# Altium schematic symbol library Crystals and Oscillators.SchLib: 9 symbols
Pins are listed as number, name and electrical type; pins without a type are passive.

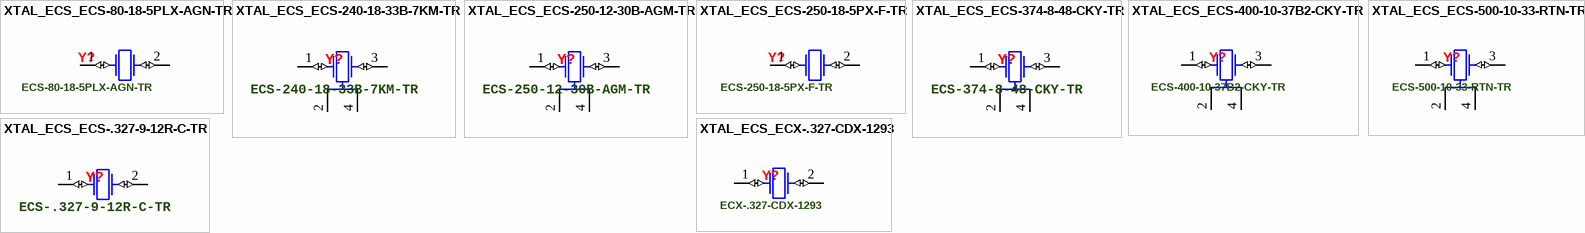
[diagram p0: symbols XTAL_ECS_ECS-80-18-5PLX-AGN-TR to XTAL_ECS_ECX-.327-CDX-1293]

## XTAL_ECS_ECS-80-18-5PLX-AGN-TR
designator Y?, comment ECS-80-18-5PLX-AGN-TR
8 MHz ±25ppm Crystal 18pF 60 Ohms HC-49/US; Manufacturer: ECS International; Frequency: 8MHz; ESR (Equivalent Series Resistance): 60R; Frequency Stability: 30ppm; Manufacturer Part Number: ECS-80-18-5PLX-AGN-TR; ComponentLink1URL: https://ecsxtal.com/store/pdf/csm-7x.pdf; ComponentLink1Description: Datasheet; Load Capacitance: 18pF; Category: Crystals; Case/Package: HC-49/US; Frequency Tolerance: 25ppm; Max Operating Temperature: 85°C; Min Operating Temperature: -40°C; RoHS Compliant: Yes; Supplier 1: Digi-Key; Supplier Part Number 1: XC2782CT-ND; Supplier 2: Mouser; Supplier Part Number 2: 520-80-18-5PLXAGNTR
footprint XTAL1140X480X320N (Crystal, 2 pins; 1140mm L X 480mm W X 320mm H Body)
simulation model Crystal (Model Description)
pins: 1 (io), 2 (io)

## XTAL_ECS_ECS-240-18-33B-7KM-TR
designator Y?, comment ECS-240-18-33B-7KM-TR
24 MHz ±7ppm Crystal 18pF 40 Ohms 4-SMD, No Lead; Manufacturer: ECS International; ESR (Equivalent Series Resistance): 40R; Frequency: 24MHz; Frequency Stability: 10ppm; Manufacturer Part Number: ECS-240-18-33B-7KM-TR; Case/Package: 4-SMD, No Lead; Category: Crystals; ComponentLink1Description: Datasheet; ComponentLink1URL: https://ecsxtal.com/store/pdf/ECS-33B.pdf; Frequency Tolerance: 7ppm; Load Capacitance: 18pF; Max Operating Temperature: 70°C; Min Operating Temperature: -20°C; RoHS Compliant: Yes; Supplier 1: Digi-Key; Supplier Part Number 1: 50-ECS-240-18-33B-7KM-CT-ND; Supplier 2: Mouser; Supplier Part Number 2: 520-240-18-33B-7KM-T
footprint XTAL320X250X80N (Crystal, 4 pins; 3.2mm L X 2.5mm W X 0.8mm H Body)
simulation model Crystal (Model Description)
pins: 1 In/Out (io), 2 GND (power) "Ground", 3 Out/In (io), 4 GND (power) "Ground"

## XTAL_ECS_ECS-250-12-30B-AGM-TR
designator Y?, comment ECS-250-12-30B-AGM-TR
25 MHz ±25ppm Crystal 12pF 30 Ohms 4-SMD, No Lead; Manufacturer: ECS International; ESR (Equivalent Series Resistance): 30R; Frequency: 25MHz; Frequency Stability: 30ppm; Manufacturer Part Number: ECS-250-12-30B-AGM-TR; ComponentLink1Description: Datasheet; ComponentLink1URL: https://ecsxtal.com/store/pdf/ecx_53b.pdf; Case/Package: 4-SMD, No Lead; Category: Crystals; Frequency Tolerance: 25ppm; Load Capacitance: 12pF; Max Operating Temperature: 70°C; Min Operating Temperature: -20°C; RoHS Compliant: Yes; Supplier 1: Digi-Key; Supplier Part Number 1: XC2699CT-ND; Supplier 2: Mouser; Supplier Part Number 2: 520-250-12-30B-AGMT
footprint XTAL500X320X85N (Crystal, 4 pins; 5.0mm L X 3.2mm W X 0.85mm H Body)
simulation model Crystal (Model Description)
pins: 1 In/Out (io), 2 GND (power) "Ground", 3 Out/In (io), 4 GND (power) "Ground"

## XTAL_ECS_ECS-250-18-5PX-F-TR
designator Y?, comment ECS-250-18-5PX-F-TR
25 MHz ±30ppm Crystal 18pF 30 Ohms HC-49/US; Manufacturer: ECS International; Frequency: 25MHz; ESR (Equivalent Series Resistance): 30R; Frequency Stability: 50ppm; Manufacturer Part Number: ECS-250-18-5PX-F-TR; Category: Crystals; Min Operating Temperature: -10°C; Max Operating Temperature: 70°C; Frequency Tolerance: 30ppm; Load Capacitance: 18pF; Case/Package: HC-49/US; ComponentLink1URL: https://ecsxtal.com/store/pdf/csm-7x.pdf; ComponentLink1Description: Datasheet; RoHS Compliant: Yes; Supplier 1: Digi-Key; Supplier Part Number 1: XC1305CT-ND; Supplier 2: Mouser; Supplier Part Number 2: 520-ECS-250-185PXFTR
footprint XTAL1140X480X320N (Crystal, 2 pins; 1140mm L X 480mm W X 320mm H Body)
simulation model Crystal (Model Description)
pins: 1 (io), 2 (io)

## XTAL_ECS_ECS-374-8-48-CKY-TR
designator Y?, comment ECS-374-8-48-CKY-TR
37.4 MHz ±10ppm Crystal 8pF 100 Ohms 4-SMD, No Lead; Manufacturer: ECS International; ESR (Equivalent Series Resistance): 100R; Manufacturer Part Number: ECS-374-8-48-CKY-TR; RoHS Compliant: Yes; ComponentLink1Description: Datasheet; ComponentLink1URL: https://ecsxtal.com/store/pdf/ECX-1048.pdf; Case/Package: 4-SMD, No Lead; Category: Crystals; Frequency: 37.4MHz; Frequency Stability: 10ppm; Frequency Tolerance: 10ppm; Load Capacitance: 8pF; Max Operating Temperature: 85°C; Min Operating Temperature: -30°C; Supplier 1: Digi-Key; Supplier Part Number 1: XC2363CT-ND; Supplier 2: Mouser; Supplier Part Number 2: 520-37.4-8-48-CKYT
footprint XTAL120X100X33N (Crystal, 4 pins; 1.2mm L X 1.0mm W X 0.33mm H Body)
simulation model Crystal (Model Description)
pins: 1 In/Out (io), 2 GND (power) "Ground", 3 Out/In (io), 4 GND (power) "Ground"

## XTAL_ECS_ECS-400-10-37B2-CKY-TR
designator Y?, comment ECS-400-10-37B2-CKY-TR
40 MHz ±10ppm Crystal 10pF 40 Ohms 4-SMD, No Lead; Manufacturer: ECS International; Frequency: 40MHz; ESR (Equivalent Series Resistance): 40R; Manufacturer Part Number: ECS-400-10-37B2-CKY-TR; Category: Crystals; Frequency Stability: 10ppm; Frequency Tolerance: 10ppm; Load Capacitance: 10pF; Min Operating Temperature: -30°C; Max Operating Temperature: 85°C; Case/Package: 4-SMD, No Lead; RoHS Compliant: Yes; Supplier 1: Digi-Key; Supplier Part Number 1: 50-ECS-400-10-37B2-CKY-TRCT-ND; Supplier 2: Mouser; Supplier Part Number 2: 520-400-10-37B2CKYTR; ComponentLink1Description: Datasheet; ComponentLink1URL: https://ecsxtal.com/store/pdf/ECX-1637B2.pdf
footprint XTAL200X160X45N (Crystal, 4 pins; 2.0mm L X 1.6mm W X 0.45mm H Body)
simulation model Crystal (Model Description)
pins: 1 In/Out (io), 2 GND (power) "Ground", 3 Out/In (io), 4 GND (power) "Ground"

## XTAL_ECS_ECS-500-10-33-RTN-TR
designator Y?, comment ECS-500-10-33-RTN-TR
50 MHz ±15ppm Crystal 10pF 40 Ohms 4-SMD, No Lead; Manufacturer: ECS International; Frequency: 50MHz; Frequency Stability: 20ppm; ESR (Equivalent Series Resistance): 40R; Manufacturer Part Number: ECS-500-10-33-RTN-TR; Category: Crystals; Case/Package: 4-SMD, No Lead; Min Operating Temperature: -40°C; Max Operating Temperature: 85°C; Frequency Tolerance: 15ppm; Load Capacitance: 10pF; ComponentLink1URL: https://ecsxtal.com/store/pdf/ecx-32.pdf; ComponentLink1Description: Datasheet; RoHS Compliant: Yes; Supplier 1: Digi-Key; Supplier Part Number 1: XC2551CT-ND; Supplier 2: Mouser; Supplier Part Number 2: 520-500-10-33-RTNT
footprint XTAL320X250X80N (Crystal, 4 pins; 3.2mm L X 2.5mm W X 0.8mm H Body)
simulation model Crystal (Model Description)
pins: 1 In/Out (io), 2 GND (power) "Ground", 3 Out/In (io), 4 GND (power) "Ground"

## XTAL_ECS_ECS-.327-9-12R-C-TR
designator Y?, comment ECS-.327-9-12R-C-TR
32.768 kHz ±10ppm Crystal 9pF 70 kOhms 2-SMD, No Lead; Manufacturer: ECS International; ESR (Equivalent Series Resistance): 70kR; Manufacturer Part Number: ECS-.327-9-12R-C-TR; Case/Package: 2-SMD, No Lead; Min Operating Temperature: -40°C; Max Operating Temperature: 85°C; Frequency: 32.768kHz; Frequency Tolerance: 10ppm; Load Capacitance: 9pF; ComponentLink1URL: https://ecsxtal.com/store/pdf/ECX-12R.pdf; ComponentLink1Description: Datasheet; Category: Crystals; RoHS Compliant: Yes; Supplier 1: Digi-Key; Supplier Part Number 1: XC2744CT-ND; Supplier 2: Mouser; Supplier Part Number 2: 520-.327-9-12R-C-T
footprint XTAL200X120X60N (Crystal, 2 pins; 2.0mm L X 1.2mm W X 0.6mm H Body)
simulation model Crystal (Model Description)
pins: 1 In/Out (io), 2 Out/In (io)

## XTAL_ECS_ECX-.327-CDX-1293
designator Y?, comment ECX-.327-CDX-1293
32.768 kHz ±5ppm Crystal 12.5pF 70 kOhms 2-SMD, No Lead; Manufacturer: ECS International; ESR (Equivalent Series Resistance): 70kR; Manufacturer Part Number: ECX-.327-CDX-1293; Category: Crystals; Case/Package: 2-SMD, No Lead; Min Operating Temperature: -40°C; Max Operating Temperature: 85°C; Frequency: 32.768kHz; Frequency Tolerance: 5ppm; Load Capacitance: 12.5pF; RoHS Compliant: Yes; ComponentLink1Description: Datasheet; ComponentLink1URL: https://ecsxtal.com/store/pdf/ECX-.327-CDX-1293.pdf; Supplier 1: Digi-Key; Supplier Part Number 1: XC2292CT-ND; Supplier 2: Mouser; Supplier Part Number 2: 520-ECX-.327CDX-1293
footprint XTAL320X150X90N (Crystal, 2 pins; 3.2mm L X 1.5mm W X 0.9mm H Body)
simulation model Crystal (Model Description)
pins: 1 In/Out (io), 2 Out/In (io)